# Altium schematic symbol library displays.SchLib: 2 symbols
Pins are listed as number, name and electrical type; pins without a type are passive.

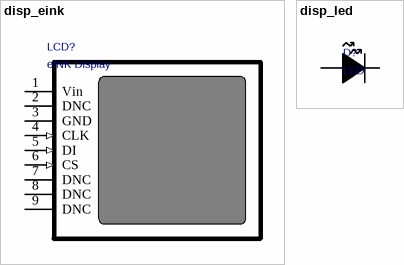
[diagram p0: symbols disp_eink to disp_led]

## disp_eink
designator LCD?, comment eINK Display
disp_eink
pins: 1 Vin (power) "3-5 V Power Input", 2 DNC "Do Not Connect", 3 GND (power) "Ground", 4 CLK (in) "SPI Clock Input", 5 DI (in) "SPI Serial Input", 6 CS (in) "SPI Chip Select", 7 DNC "Do Not Connect", 8 DNC "Do Not Connect", 9 DNC "Do Not Connect"

## disp_led
designator D?, comment LED
disp_led
pins: 1, 2